# EAGLE library part UPC339GR (library user_ic)
ルネサスの汎用コンパレータ 単一電源、両電源対応 オープンコレクタ rsコンポーネンツ通販コード[641-6300]
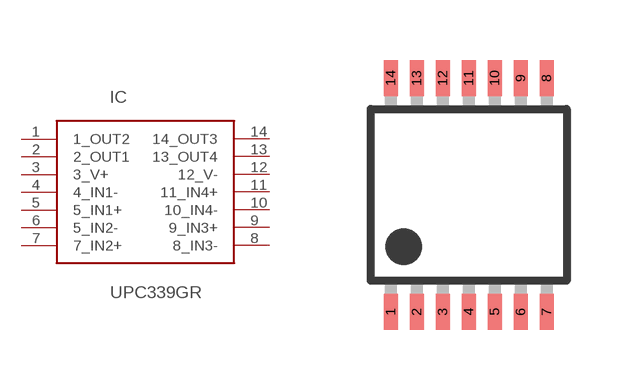
[diagram p21: symbol with the pads of TSSOP14; footprint TSSOP14]

Designator prefix IC

## UPC339GR  [TSSOP14]
1  1_OUT2
2  2_OUT1
3  3_V+
4  4_IN1-
5  5_IN1+
6  5_IN2-
7  7_IN2+
8  8_IN3-
9  9_IN3+
10  10_IN4-
11  11_IN4+
12  12_V-
13  13_OUT4
14  14_OUT3

## Footprint TSSOP14 (pad centres in mm)
plastic thin shrink small outline package; 14 leads; body width 4.4 mm SOT402-1 Source: http://www.nxp.com/documents/data_sheet/74ABT125.pdf TC4011 入力電圧max18v rsコンポーネンツ通販コード[663-4283]
smd 0.35 x 0.9: 1 -1.95,-2.925; 2 -1.3,-2.925; 3 -0.65,-2.925; 4 0,-2.925; 5 0.65,-2.925; 6 1.3,-2.925; 7 1.95,-2.925; 8 1.95,2.925; 9 1.3,2.925; 10 0.65,2.925; 11 0,2.925; 12 -0.65,2.925; 13 -1.3,2.925; 14 -1.95,2.925